# Altium footprint library one_channel_PCB.PcbLib: 14 footprints
Each footprint in its own frame and in the unit in brackets; x right, y up, seen from the top. Pads: shape width x height; smd on the part's side, far side on the other; paste and mask are expansions set on the pad; w line width, h text height; cw(c..) or ccw(c..) is an arc to the next point about the centre after c.
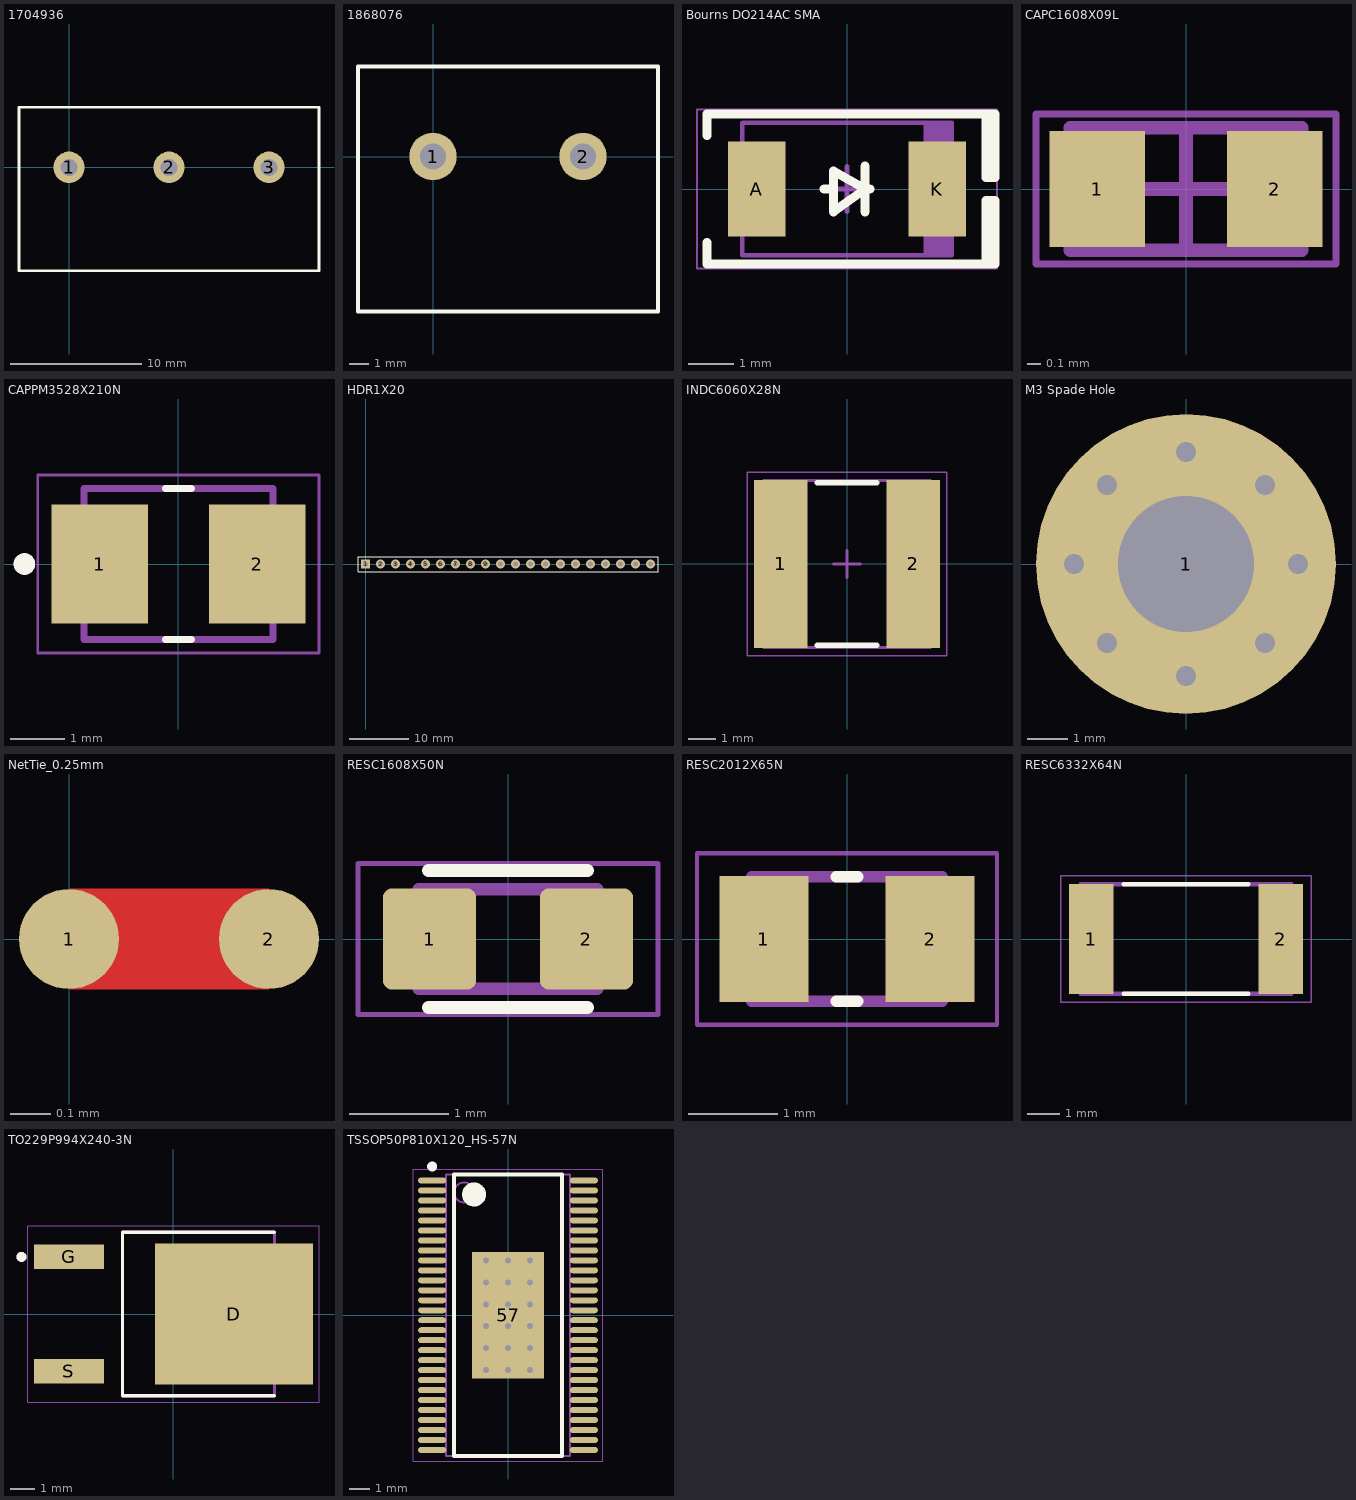
[diagram p0: the footprints below, top view; thin cyan lines are the x and y axes]

## 1704936 [mm]
pads (3):
  round 2.4 hole 1.3: 1(0,0) 2(7.62,0) 3(15.24,0)
Top Overlay:
  lines w0.2: -3.81,-7.874 -3.81,4.572 19.05,4.572 19.05,-7.874 -3.81,-7.874

## 1868076 [mm]
pads (2):
  round 2.4 hole 1.3: 1(0,0) 2(7.62,0)
Top Overlay:
  lines w0.2: -3.81,-7.874 11.43,-7.874 11.43,4.572 -3.81,4.572 -3.81,-7.874

## Bourns DO214AC SMA [mm]
pads (2):
  rect 1.27x2.1 smd: A(-1.985,0) K(1.985,0)
Top Overlay:
  lines w0.2: -3.083,-1.175 -3.083,-1.651 3.25,-1.651 3.25,-0.254 3.056,-0.254 3.056,-1.651 ; -3.083,1.175 -3.083,1.651 3.25,1.651 3.25,0.254 3.056,0.254 3.056,1.651 ; -0.5,0 -0.3,0 ; 0.4,-0.5 0.4,0.5 ; 0.5,0 0.4,0 ; 0.4,0 -0.3,-0.5 -0.3,0.4 0.4,0
Mechanical 13:
  rectangle: 1.681,-1.46 2.3,1.46
  lines w0.1: -2.3,-1.46 2.3,-1.46 2.3,1.46 -2.3,1.46 -2.3,-1.46
Mechanical 15:
  lines w0.05: -3.3,-1.75 3.3,-1.75 3.3,1.75 -3.3,1.75 -3.3,-1.75
  lines w0.1: -0.5,0 0.5,0 ; 0,-0.5 0,0.5
3D body "SMA.STEP": height 2.4, standoff 0, extent -2.6,-1.375 2.6,1.375

## CAPC1608X09L [mm]
pads (2):
  rect 0.7x0.85 smd: 1(-0.65,0) 2(0.65,0)
Mechanical 13:
  lines w0.1: -0.85,-0.45 -0.85,0.45 0.85,0.45 0.85,-0.45 -0.85,-0.45
Mechanical 15:
  lines w0.05: -1.1,-0.55 -1.1,0.55 1.1,0.55 1.1,-0.55 -1.1,-0.55
  lines w0.1: -0.45,0 0.45,0 ; 0,-0.45 0,0.45
3D body: height 0.9, standoff 0, extent -0.55,-0.45 0.55,0.45
3D body: height 0.9, standoff 0, extent -0.85,-0.45 -0.55,0.45
3D body: height 0.9, standoff 0, extent 0.55,-0.45 0.85,0.45

## CAPPM3528X210N [mm]
pads (2):
  rect 1.79x2.21 smd: 1(-1.46,0) 2(1.46,0)
Top Overlay:
  circle w0.2: c-2.855,0 r0.1
  lines w0.127: -0.245,-1.4 0.245,-1.4 ; -0.245,1.4 0.245,1.4
Mechanical 13:
  circle w0.2: c-2.855,0 r0.1
  lines w0.127: -1.75,-1.4 1.75,-1.4 1.75,1.4 -1.75,1.4 -1.75,-1.4
Mechanical 15:
  lines w0.05: -2.605,-1.65 2.605,-1.65 2.605,1.65 -2.605,1.65 -2.605,-1.65

## HDR1X20 [mm]
pads (20):
  rect 1.5x1.5 hole 0.9: 1(0,0)
  round 1.5 hole 0.9: 2(2.54,0) 3(5.08,0) 4(7.62,0) 5(10.16,0) 6(12.7,0) 7(15.24,0) 8(17.78,0) 9(20.32,0) 10(22.86,0) 11(25.4,0) 12(27.94,0) 13(30.48,0) 14(33.02,0) 15(35.56,0) 16(38.1,0) 17(40.64,0) 18(43.18,0) 19(45.72,0) 20(48.26,0)
Top Overlay:
  lines w0.2: -1.27,-1.27 49.53,-1.27 49.53,1.27 0.635,1.27 -1.27,1.27 -1.27,-1.27

## INDC6060X28N [mm]
pads (2):
  rect 1.98x6.22 smd: 1(-2.46,0) 2(2.46,0)
Top Overlay:
  lines w0.2: -1.1,-3.01 1.1,-3.01 ; -1.1,3.01 1.1,3.01
Mechanical 13:
  lines w0.1: -3.1,-3.1 -3.1,3.1 3.1,3.1 3.1,-3.1 -3.1,-3.1
Mechanical 15:
  lines w0.05: -3.7,-3.4 -3.7,3.4 3.7,3.4 3.7,-3.4 -3.7,-3.4
  lines w0.1: -0.5,0 0.5,0 ; 0,-0.5 0,0.5
3D body: height 2.8, standoff 0, extent -1.75,-3.1 1.75,3.1
3D body: height 2.8, standoff 0, extent -3.1,-3.1 -1.75,3.1
3D body: height 2.8, standoff 0, extent 1.75,-3.1 3.1,3.1

## M3 Spade Hole [mm]
pads (1):
  round 7.5 hole 3.4: 1(0,0)
via 1.98,-1.98 diameter 1 hole 0.5
via 0,-2.8 diameter 1 hole 0.5
via -1.98,-1.98 diameter 1 hole 0.5
via -2.8,0 diameter 1 hole 0.5
via -1.98,1.98 diameter 1 hole 0.5
via 0,2.8 diameter 1 hole 0.5
via 1.98,1.98 diameter 1 hole 0.5
via 2.8,0 diameter 1 hole 0.5

## NetTie_0.25mm [mm]
pads (2):
  round 0.25 smd paste-2: 1(0,0) 2(0.5,0)
Top Layer:
  region: 0,0.125 0.5,0.125 0.5,-0.125 0,-0.125

## RESC1608X50N [mm]
pads (2):
  rrect20% 0.94x1.02 smd: 1(-0.79,0) 2(0.79,0)
Top Overlay:
  lines w0.127: -0.8,-0.69 0.8,-0.69 ; -0.8,0.69 0.8,0.69
Mechanical 13:
  lines w0.127: -0.9,-0.5 0.9,-0.5 0.9,0.5 -0.9,0.5 -0.9,-0.5
Mechanical 15:
  lines w0.05: -1.51,-0.76 1.51,-0.76 1.51,0.76 -1.51,0.76 -1.51,-0.76
3D body "step_temp.STEP": height 0.23, standoff -0.23, extent -0.8,-0.4 0.8,0.4

## RESC2012X65N [mm]
pads (2):
  rect 1x1.42 smd: 1(-0.935,0) 2(0.935,0)
Top Overlay:
  lines w0.127: -0.12,-0.7 0.12,-0.7 ; -0.12,0.7 0.12,0.7
Mechanical 13:
  lines w0.127: -1.07,-0.7 1.07,-0.7 1.07,0.7 -1.07,0.7 -1.07,-0.7
Mechanical 15:
  lines w0.05: -1.685,-0.962 1.685,-0.962 1.685,0.962 -1.685,0.962 -1.685,-0.962

## RESC6332X64N [mm]
pads (2):
  rect 1.36x3.38 smd: 1(-2.909,0) 2(2.909,0)
Top Overlay:
  lines w0.127: -1.91,-1.68 1.91,-1.68 ; -1.91,1.68 1.91,1.68
Mechanical 13:
  lines w0.127: -3.23,-1.68 -3.23,1.68 3.23,1.68 3.23,-1.68 -3.23,-1.68
Mechanical 15:
  lines w0.05: -3.837,-1.942 -3.837,1.942 3.837,1.942 3.837,-1.942 -3.837,-1.942

## TO229P994X240-3N [mm]
pads (3):
  rect 6.33x5.67 smd paste-4: D(2.43,0)
  rect 2.81x0.98 smd: G(-4.19,2.29) S(-4.19,-2.29)
Top Overlay:
  circle w0.2: c-6.095,2.29 r0.1
  lines w0.127: 4.055,-3.283 -2.045,-3.283 -2.045,3.283 4.055,3.283
Top Paste:
  region: 5.305,-2.545 3.775,-2.545 3.775,-1.235 5.305,-1.235
  region: 3.195,-2.545 1.665,-2.545 1.665,-1.235 3.195,-1.235
  region: 1.085,-2.545 -0.445,-2.545 -0.445,-1.235 1.085,-1.235
  region: 5.305,1.235 3.775,1.235 3.775,2.545 5.305,2.545
  region: 3.195,1.235 1.665,1.235 1.665,2.545 3.195,2.545
  region: 1.085,1.235 -0.445,1.235 -0.445,2.545 1.085,2.545
  region: 5.305,-0.655 3.775,-0.655 3.775,0.655 5.305,0.655
  region: 1.085,-0.655 -0.445,-0.655 -0.445,0.655 1.085,0.655
  region: 3.195,-0.655 1.665,-0.655 1.665,0.655 3.195,0.655
Mechanical 13:
  circle w0.2: c-6.095,2.29 r0.1
  lines w0.127: -2.045,-3.283 -2.045,3.283 4.055,3.283 4.055,-3.283 -2.045,-3.283
Mechanical 15:
  lines w0.05: -5.845,-3.532 5.845,-3.532 5.845,3.532 -5.845,3.532 -5.845,-3.532

## TSSOP50P810X120_HS-57N [mm]
pads (57):
  oval 1.4x0.3 smd: 1(-3.8,6.75) 2(-3.8,6.25) 3(-3.8,5.75) 4(-3.8,5.25) 5(-3.8,4.75) 6(-3.8,4.25) 7(-3.8,3.75) 8(-3.8,3.25) 9(-3.8,2.75) 10(-3.8,2.25) 11(-3.8,1.75) 12(-3.8,1.25) 13(-3.8,0.75) 14(-3.8,0.25) 15(-3.8,-0.25) 16(-3.8,-0.75) 17(-3.8,-1.25) 18(-3.8,-1.75) 19(-3.8,-2.25) 20(-3.8,-2.75) 21(-3.8,-3.25) 22(-3.8,-3.75) 23(-3.8,-4.25) 24(-3.8,-4.75) 25(-3.8,-5.25) 26(-3.8,-5.75) 27(-3.8,-6.25) 28(-3.8,-6.75) 29(3.8,-6.75) 30(3.8,-6.25) 31(3.8,-5.75) 32(3.8,-5.25) 33(3.8,-4.75) 34(3.8,-4.25) 35(3.8,-3.75) 36(3.8,-3.25) 37(3.8,-2.75) 38(3.8,-2.25) 39(3.8,-1.75) 40(3.8,-1.25) 41(3.8,-0.75) 42(3.8,-0.25) 43(3.8,0.25) 44(3.8,0.75) 45(3.8,1.25) 46(3.8,1.75) 47(3.8,2.25) 48(3.8,2.75) 49(3.8,3.25) 50(3.8,3.75) 51(3.8,4.25) 52(3.8,4.75) 53(3.8,5.25) 54(3.8,5.75) 55(3.8,6.25) 56(3.8,6.75)
  rect 3.61x6.35 smd: 57(0,0)
via -1.1,2.75 diameter 0.7 hole 0.3
via 0,2.75 diameter 0.7 hole 0.3
via 1.1,2.75 diameter 0.7 hole 0.3
via -1.1,1.65 diameter 0.7 hole 0.3
via 0,1.65 diameter 0.7 hole 0.3
via 1.1,1.65 diameter 0.7 hole 0.3
via -1.1,0.55 diameter 0.7 hole 0.3
via 0,0.55 diameter 0.7 hole 0.3
via 1.1,0.55 diameter 0.7 hole 0.3
via -1.1,-0.55 diameter 0.7 hole 0.3
via 0,-0.55 diameter 0.7 hole 0.3
via 1.1,-0.55 diameter 0.7 hole 0.3
via -1.1,-1.65 diameter 0.7 hole 0.3
via 0,-1.65 diameter 0.7 hole 0.3
via 1.1,-1.65 diameter 0.7 hole 0.3
via -1.1,-2.75 diameter 0.7 hole 0.3
via 0,-2.75 diameter 0.7 hole 0.3
via 1.1,-2.75 diameter 0.7 hole 0.3
Top Overlay:
  circle w0.25: c-3.8,7.45 r0.125
  circle w0.6: c-1.7,6.05 r0.3
  lines w0.2: -2.7,-7.05 -2.7,7.05 2.7,7.05 2.7,-7.05 -2.7,-7.05
Mechanical 13:
  circle w0.1: c-2.2,6.15 r0.5
  lines w0.1: -3.1,-7.05 -3.1,7.05 3.1,7.05 3.1,-7.05 -3.1,-7.05
Mechanical 15:
  lines w0.05: -4.75,-7.3 -4.75,7.3 4.75,7.3 4.75,-7.3 -4.75,-7.3
  lines w0.1: -0.5,0 0.5,0 ; 0,-0.5 0,0.5
3D body: height 1.2, standoff 0.05, extent -3.1,-7.05 3.1,7.05